# EAGLE library part TXB0104 (library FaBo-LevelTranslator)
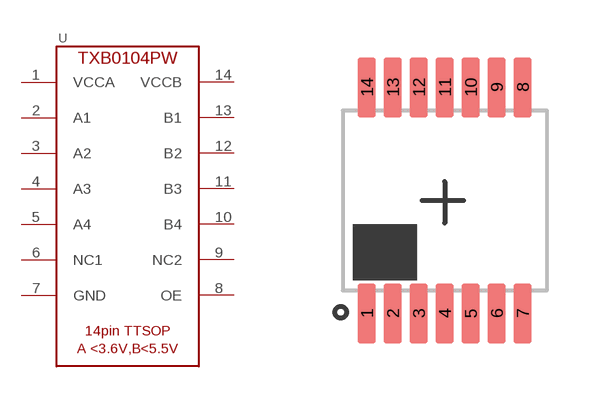
[diagram p16: symbol with the pads of TSSOP-14; footprint TSSOP-14]

Designator prefix -

## TXB0104  [TSSOP-14]
1  VCCA  pwr
2  A1
3  A2
4  A3
5  A4
6  NC1  nc
7  GND  pwr
8  OE  in
9  NC2  nc
10  B4
11  B3
12  B2
13  B1
14  VCCB  pwr

## Footprint TSSOP-14 (pad centres in mm)
smd 0.45 x 1.5: 1 -1.95,-2.825; 2 -1.3,-2.825; 3 -0.65,-2.825; 4 0,-2.825; 5 0.65,-2.825; 6 1.3,-2.825; 7 1.95,-2.825; 8 1.95,2.825; 9 1.3,2.825; 10 0.65,2.825; 11 0,2.825; 12 -0.65,2.825; 13 -1.3,2.825; 14 -1.95,2.825